# Altium footprint library 屏幕.PcbLib: 2 footprints
Each footprint in its own frame and in the unit in brackets; x right, y up, seen from the top. Pads: shape width x height; smd on the part's side, far side on the other; paste and mask are expansions set on the pad; w line width, h text height; cw(c..) or ccw(c..) is an arc to the next point about the centre after c.
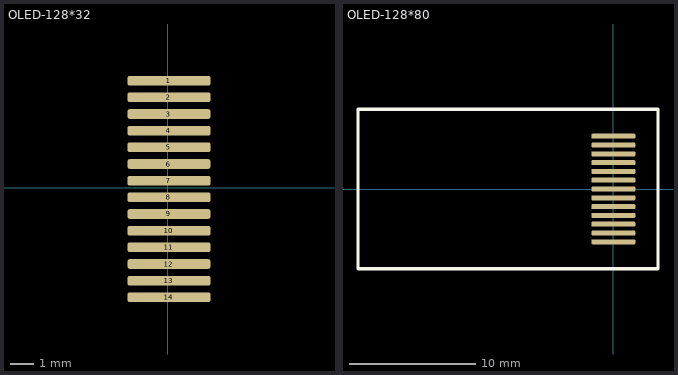
[diagram p0: the footprints below, top view; thin cyan lines are the x and y axes]

## OLED-128*32 [mm]
pads (14):
  rrect50% 3.5x0.4 smd: 1(0.06,4.5) 2(0.06,3.8) 3(0.06,3.1) 4(0.06,2.4) 5(0.06,1.7) 6(0.06,1) 7(0.06,0.3) 8(0.06,-0.4) 9(0.06,-1.1) 10(0.06,-1.8) 11(0.06,-2.5) 12(0.06,-3.2) 13(0.06,-3.9) 14(0.06,-4.6)

## OLED-128*80 [mm]
height 4.3
pads (13):
  rrect50% 3.5x0.4 smd: 1(0,-4.2) 2(0,-3.5) 3(0,-2.8) 4(0,-2.1) 5(0,-1.4) 6(0,-0.7) 7(0,0) 8(0,0.7) 9(0,1.4) 10(0,2.1) 11(0,2.8) 12(0,3.5) 13(0,4.2)
Top Overlay:
  lines w0.254: -20.32,-6.35 3.556,-6.35 3.556,6.35 -20.32,6.35 -20.32,-6.35
3D body "Ctrl-DualBoard-Down v1.step": height 1.55, standoff 0.09, extent -20.182,-6.25 7.54,6.25